# EAGLE library part CSD-424 (library Disp)
Seven Segment LED display, 2 digit, CA
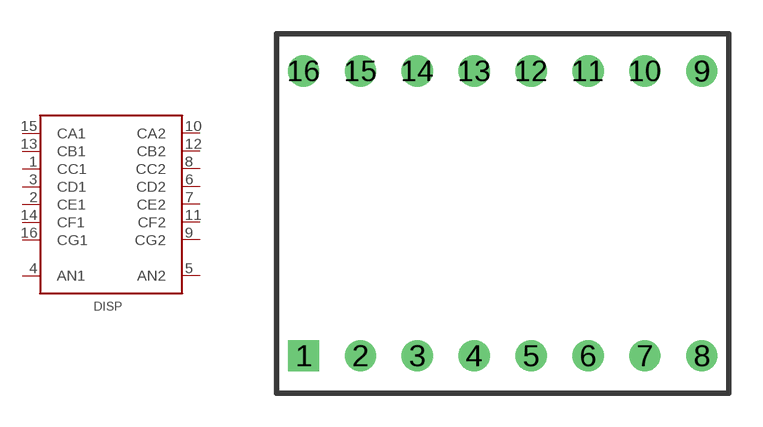
[diagram p4: symbol with the pads of CSD-42X; footprint CSD-42X]

Designator prefix DISP

## CSD-424  [CSD-42X]
1  CC1  pas
2  CE1  pas
3  CD1  pas
4  AN1  pas
5  AN2  pas
6  CD2  pas
7  CE2  pas
8  CC2  pas
9  CG2  pas
10  CA2  pas
11  CF2  pas
12  CB2  pas
13  CB1  pas
14  CF1  pas
15  CA1  pas
16  CG1  pas

## Footprint CSD-42X (pad centres in mm)
drill 0.889 square: 1 -8.89,-6.35
drill 0.889 round: 2 -6.35,-6.35; 3 -3.81,-6.35; 4 -1.27,-6.35; 5 1.27,-6.35; 6 3.81,-6.35; 7 6.35,-6.35; 8 8.89,-6.35; 9 8.89,6.35; 10 6.35,6.35; 11 3.81,6.35; 12 1.27,6.35; 13 -1.27,6.35; 14 -3.81,6.35; 15 -6.35,6.35; 16 -8.89,6.35